# Altium footprint library PcbLib1.PcbLib: 23 footprints (part 1 of 2)
Each footprint in its own frame and in the unit in brackets; x right, y up, seen from the top. Pads: shape width x height; smd on the part's side, far side on the other; paste and mask are expansions set on the pad; w line width, h text height; cw(c..) or ccw(c..) is an arc to the next point about the centre after c.
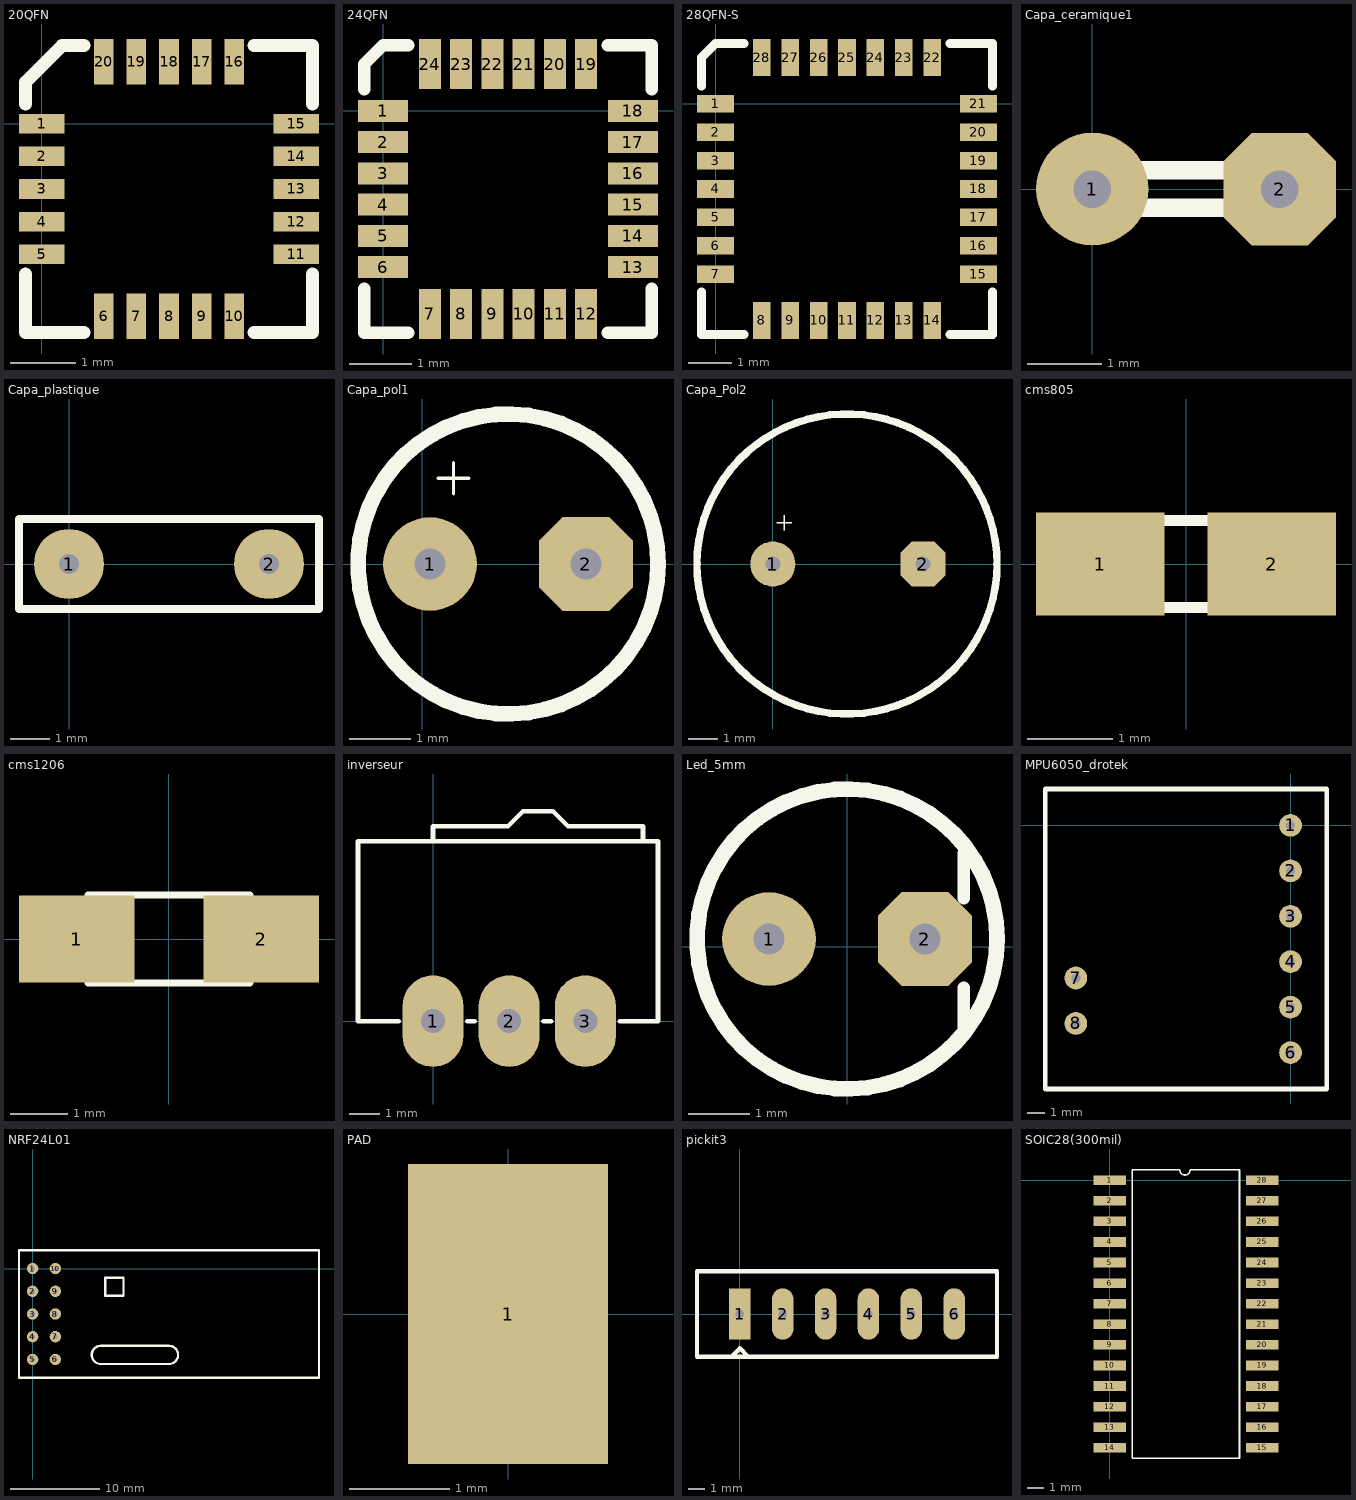
[diagram p0: the footprints below, top view; thin cyan lines are the x and y axes]

## 20QFN [mm]
pads (20):
  rect 0.7x0.3 smd: 1(0,0) 2(0,-0.5) 3(0,-1) 4(0,-1.5) 5(0,-2) 11(3.9,-2) 12(3.9,-1.5) 13(3.9,-1) 14(3.9,-0.5) 15(3.9,0)
  rect 0.3x0.7 smd: 6(0.95,-2.95) 7(1.45,-2.95) 8(1.95,-2.95) 9(2.45,-2.95) 10(2.95,-2.95) 16(2.95,0.95) 17(2.45,0.95) 18(1.95,0.95) 19(1.45,0.95) 20(0.95,0.95)
Top Overlay:
  lines w0.2: -0.25,-2.3 -0.25,-3.2 0.65,-3.2 ; -0.25,0.3 -0.25,0.639 0.311,1.2 0.65,1.2 ; 3.25,-3.2 4.15,-3.2 4.15,-2.3 ; 3.25,1.2 4.15,1.2 4.15,0.3

## 24QFN [mm]
pads (24):
  rect 0.8x0.35 smd: 1(0,0) 2(0,-0.5) 3(0,-1) 4(0,-1.5) 5(0,-2) 6(0,-2.5) 13(4,-2.5) 14(4,-2) 15(4,-1.5) 16(4,-1) 17(4,-0.5) 18(4,0)
  rect 0.35x0.8 smd: 7(0.75,-3.25) 8(1.25,-3.25) 9(1.75,-3.25) 10(2.25,-3.25) 11(2.75,-3.25) 12(3.25,-3.25) 19(3.25,0.75) 20(2.75,0.75) 21(2.25,0.75) 22(1.75,0.75) 23(1.25,0.75) 24(0.75,0.75)
Top Overlay:
  lines w0.2: -0.3,-2.85 -0.3,-3.55 0.4,-3.55 ; -0.3,0.35 -0.3,0.75 0,1.05 0.4,1.05 ; 3.6,-3.55 4.3,-3.55 4.3,-2.85 ; 3.6,1.05 4.3,1.05 4.3,0.35

## 28QFN-S [mm]
pads (28):
  rect 0.85x0.4 smd: 1(0,0) 2(0,-0.65) 3(0,-1.3) 4(0,-1.95) 5(0,-2.6) 6(0,-3.25) 7(0,-3.9) 15(6,-3.9) 16(6,-3.25) 17(6,-2.6) 18(6,-1.95) 19(6,-1.3) 20(6,-0.65) 21(6,0)
  rect 0.4x0.85 smd: 8(1.05,-4.95) 9(1.7,-4.95) 10(2.35,-4.95) 11(3,-4.95) 12(3.65,-4.95) 13(4.3,-4.95) 14(4.95,-4.95) 22(4.95,1.05) 23(4.3,1.05) 24(3.65,1.05) 25(3,1.05) 26(2.35,1.05) 27(1.7,1.05) 28(1.05,1.05)
Top Overlay:
  lines w0.2: -0.325,-4.3 -0.325,-5.275 0.65,-5.275 ; -0.325,0.4 -0.325,1.05 0,1.375 0.65,1.375 ; 5.35,-5.275 6.325,-5.275 6.325,-4.3 ; 5.35,1.375 6.325,1.375 6.325,0.4

## Capa_ceramique1 [mil]
pads (2):
  round 60 hole 20: 1(0,0)
  oct 60x60 hole 20: 2(100,0)
Top Overlay:
  lines w10: 0,-10 100,-10 ; 0,10 100,10

## Capa_plastique [mil]
pads (2):
  round 70 hole 20: 1(0,0) 2(200,0)
Top Overlay:
  lines w8: -50,-45 250,-45 250,45 -50,45 -50,-45

## Capa_pol1 [mil]
pads (2):
  round 60 hole 20: 1(5,0)
  oct 60x60 hole 20: 2(105,0)
Top Overlay:
  circle w10: c55,0 r96.18
  lines w2: 10,55 30,55 ; 20,45 20,65

## Capa_Pol2 [mil]
pads (2):
  round 60 hole 20: 1(0,0)
  oct 60x60 hole 20: 2(200,0)
Top Overlay:
  circle w10: c98.82,0 r200
  lines w2: 5,55 25,55 ; 15,45 15,65

## cms805 [mm]
pads (2):
  rect 1.5x1.2 smd: 1(-1,0) 2(1,0)
Top Overlay:
  lines w0.127: -0.762,-0.508 0.762,-0.508 0.762,0.508 -0.762,0.508 -0.762,-0.508

## cms1206 [mm]
pads (2):
  rect 2x1.5 smd: 1(-1.6,0) 2(1.6,0)
Top Overlay:
  lines w0.127: 0.889,-0.762 0.889,0.762 ; -1.397,-0.762 -1.397,0.762 1.397,0.762 1.397,-0.762 -1.397,-0.762

## inverseur [mil]
pads (3):
  oval 80x120 hole 31.5: 1(0,0) 2(100,0) 3(200,0)
Top Overlay:
  lines w6: -45,0 -98.43,0 -98.43,236.22 295.28,236.22 295.28,216.54 295.28,0 245,0 ; 0,236.22 0,255.91 98.43,255.91 118.11,275.59 157.48,275.59 177.17,255.91 275.59,255.91 275.59,236.22 ; 45,0 55,0 ; 145,0 155,0

## Led_5mm [mil]
pads (2):
  round 60 hole 20: 1(-50,5)
  oct 60x60 hole 20: 2(50,5)
Top Overlay:
  circle w10: c0,5 r96.18
  lines w8: 75,-55 75,-26.25 ; 75,31.25 75,60

## MPU6050_drotek [mil]
pads (8):
  round 50 hole 20: 1(0,0) 2(0,-100) 3(0,-200) 4(0,-300) 5(0,-400) 6(0,-500) 7(-472.44,-335.83) 8(-472.44,-435.83)
Top Overlay:
  lines w10: -540,-580 80,-580 80,80 -540,80 -540,-580

## NRF24L01 [mil]
pads (10):
  round 50 hole 20: 1(0,0) 2(0,-100) 3(0,-200) 4(0,-300) 5(0,-400) 6(100,-400) 7(100,-300) 8(100,-200) 9(100,-100) 10(100,0)
Top Overlay:
  lines w10: -60,-480 1260,-480 1260,80 -60,80 -60,-480 ; 260,-380 ccw(c300,-380) 300,-420 600,-420 ccw(c600,-380) 640,-380 ccw(c600,-380) 600,-340 300,-340 ccw(c300,-380) 260,-380 ; 320,-120 400,-120 400,-40 320,-40 320,-120

## PAD [mm]
pads (1):
  rect 2x3 smd: 1(0,0)

## pickit3 [mil]
pads (6):
  rect 50x120 hole 20: 1(0,0)
  oval 50x120 hole 20: 2(100,0) 3(200,0) 4(300,0) 5(400,0) 6(500,0)
Top Overlay:
  lines w10: -100,-100 600,-100 600,100 -100,100 -100,-100 ; -20,-100 20,-100 0,-80 -20,-100

## SOIC28(300mil) [mm]
pads (28):
  rect 2x0.6 smd: 1(0,0) 2(0,-1.27) 3(0,-2.54) 4(0,-3.81) 5(0,-5.08) 6(0,-6.35) 7(0,-7.62) 8(0,-8.89) 9(0,-10.16) 10(0,-11.43) 11(0,-12.7) 12(0,-13.97) 13(0,-15.24) 14(0,-16.51) 15(9.4,-16.51) 16(9.4,-15.24) 17(9.4,-13.97) 18(9.4,-12.7) 19(9.4,-11.43) 20(9.4,-10.16) 21(9.4,-8.89) 22(9.4,-7.62) 23(9.4,-6.35) 24(9.4,-5.08) 25(9.4,-3.81) 26(9.4,-2.54) 27(9.4,-1.27) 28(9.4,0)
Top Overlay:
  lines w0.1: 1.385,-17.145 8.001,-17.145 8.001,0.635 4.953,0.635 cw(c4.635,0.635) 4.318,0.635 1.385,0.635 1.385,-17.145